# Altium schematic symbol library BM06B-GHS-TBT (LF)(SN)(N).SchLib: 1 symbol
Pins are listed as number, name and electrical type; pins without a type are passive.

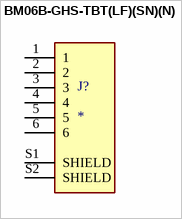
[diagram p0: symbol BM06B-GHS-TBT(LF)(SN)(N)]

## BM06B-GHS-TBT(LF)(SN)(N)
designator J?
Conn Header Gh Top 6pos 1.25mm; MF: {'manufacturer': u'JST Corporation'}; MP: BM06B-GHS-TBT(LF)(SN)(N); Package: None; Price: None; Value: *; Availability: Unavailable
footprint JST_BM06B-GHS-TBT(LF)(SN)(N)
pins: 1, 2, 3, 4, 5, 6, S1 SHIELD, S2 SHIELD